# Altium schematic symbol library Microchip Interface.SchLib: 180 symbols (part 1 of 6)
Pins are listed as number, name and electrical type; pins without a type are passive.

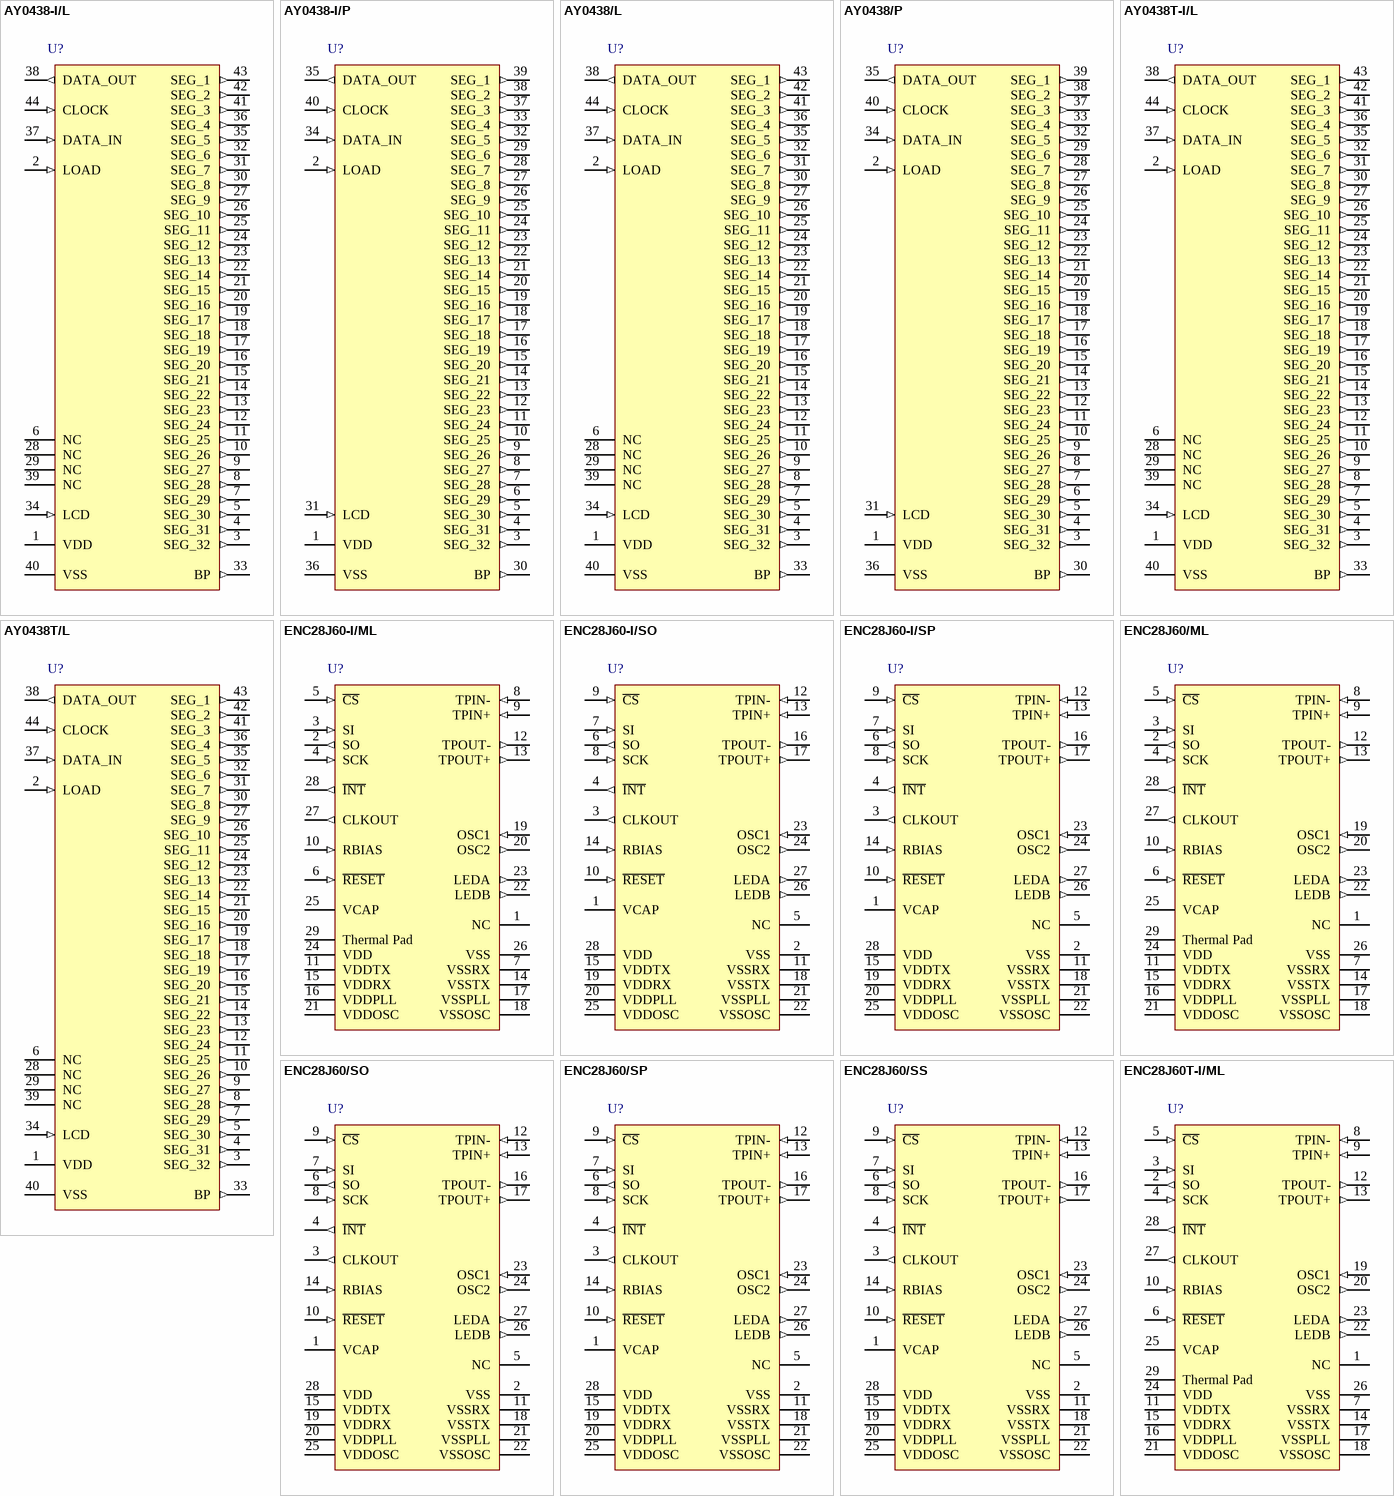
[diagram p0: symbols AY0438-I/L to ENC28J60T-I/ML]

## AY0438-I/L
designator U?
32-Segment CMOS LCD Driver, 44-Pin PLCC, Industrial Temperature; Published: 29-Jan-2009; DatasheetVersion: RevA, Apr-2003; PackageVersion: revBB, Aug-2009; PackageReference: PLCC-L44; Publisher: Altium Limited; PackageDescription: 44-Lead Plastic Leaded Chip Carrier (L) - Square [PLCC]; Supplier 1: Digi-Key; Supplier Part Number 1: AY0438-I/L-ND; Supplier 2: Farnell; Supplier Part Number 2: 1467690; Supplier 3: Farnell; Supplier Part Number 3: 1259011; Code_JEDEC: MO-047; Code_IPC: PLCC-44; ComponentLink1Description: Datasheet; ComponentLink1URL: http://ww1.microchip.com/downloads/en/DeviceDoc/80438a.pdf; ComponentLink2Description: Packaging Specification; ComponentLink2URL: http://www.microchip.com/stellent/groups/techpub_sg/documents/packagingspec/en012702.pdf; ComponentLink3Description: Microchip.com Home; ComponentLink3URL: http://www.microchip.com/
footprint PLCC-L44_N (Leaded Chip Carrier, 44-Leads, Body 16.6x16.6mm, Pitch 1.27mm, IPC Medium Density)
footprint PLCC-L44_L (Leaded Chip Carrier, 44-Leads, Body 16.6x16.6mm, Pitch 1.27mm, IPC High Density)
footprint PLCC-L44_M (Leaded Chip Carrier, 44-Leads, Body 16.6x16.6mm, Pitch 1.27mm, IPC Low Density)
pins: 1 VDD (power), 2 LOAD (in), 3 SEG_32 (out), 4 SEG_31 (out), 5 SEG_30 (out), 6 NC, 7 SEG_29 (out), 8 SEG_28 (out), 9 SEG_27 (out), 10 SEG_26 (out), 11 SEG_25 (out), 12 SEG_24 (out), 13 SEG_23 (out), 14 SEG_22 (out), 15 SEG_21 (out), 16 SEG_20 (out), 17 SEG_19 (out), 18 SEG_18 (out), 19 SEG_17 (out), 20 SEG_16 (out), 21 SEG_15 (out), 22 SEG_14 (out), 23 SEG_13 (out), 24 SEG_12 (out), 25 SEG_11 (out), 26 SEG_10 (out), 27 SEG_9 (out), 28 NC, 29 NC, 30 SEG_8 (out), 31 SEG_7 (out), 32 SEG_6 (out), 33 BP (out), 34 LCD (in), 35 SEG_5 (out), 36 SEG_4 (out), 37 DATA_IN (in), 38 DATA_OUT (out), 39 NC, 40 VSS (power), 41 SEG_3 (out), 42 SEG_2 (out), 43 SEG_1 (out), 44 CLOCK (in)

## AY0438-I/P
designator U?
32-Segment CMOS LCD Driver, 40-Pin PDIP, Industrial Temperature; Published: 29-Jan-2009; DatasheetVersion: RevA, Apr-2003; PackageVersion: revBB, Aug-2009; PackageReference: PDIP600-P40; Publisher: Altium Limited; PackageDescription: 40-Lead Plastic Dual In-Line (P) - 600 mil Body [PDIP]; Supplier 1: Digi-Key; Supplier Part Number 1: AY0438-I/P-ND; Supplier 2: Farnell; Supplier Part Number 2: 1227383; ComponentLink1Description: Datasheet; ComponentLink1URL: http://ww1.microchip.com/downloads/en/DeviceDoc/80438a.pdf; ComponentLink2Description: Packaging Specification; ComponentLink2URL: http://www.microchip.com/stellent/groups/techpub_sg/documents/packagingspec/en012702.pdf; ComponentLink3Description: Microchip.com Home; ComponentLink3URL: http://www.microchip.com/
footprint PDIP600-P40 (DIP, 40-Leads, Row Spacing 15.24mm, Pitch 2.54mm, Body 51.8x13.5mm)
pins: 1 VDD (power), 2 LOAD (in), 3 SEG_32 (out), 4 SEG_31 (out), 5 SEG_30 (out), 6 SEG_29 (out), 7 SEG_28 (out), 8 SEG_27 (out), 9 SEG_26 (out), 10 SEG_25 (out), 11 SEG_24 (out), 12 SEG_23 (out), 13 SEG_22 (out), 14 SEG_21 (out), 15 SEG_20 (out), 16 SEG_19 (out), 17 SEG_18 (out), 18 SEG_17 (out), 19 SEG_16 (out), 20 SEG_15 (out), 21 SEG_14 (out), 22 SEG_13 (out), 23 SEG_12 (out), 24 SEG_11 (out), 25 SEG_10 (out), 26 SEG_9 (out), 27 SEG_8 (out), 28 SEG_7 (out), 29 SEG_6 (out), 30 BP (out), 31 LCD (in), 32 SEG_5 (out), 33 SEG_4 (out), 34 DATA_IN (in), 35 DATA_OUT (out), 36 VSS (power), 37 SEG_3 (out), 38 SEG_2 (out), 39 SEG_1 (out), 40 CLOCK (in)

## AY0438/L
designator U?
32-Segment CMOS LCD Driver, 44-Pin PLCC; Published: 29-Jan-2009; DatasheetVersion: RevA, Apr-2003; PackageVersion: revBB, Aug-2009; PackageReference: PLCC-L44; Publisher: Altium Limited; PackageDescription: 44-Lead Plastic Leaded Chip Carrier (L) - Square [PLCC]; Supplier 1: Digi-Key; Supplier Part Number 1: AY0438/L-ND; Code_JEDEC: MO-047; Code_IPC: PLCC-44; ComponentLink1Description: Datasheet; ComponentLink1URL: http://ww1.microchip.com/downloads/en/DeviceDoc/80438a.pdf; ComponentLink2Description: Packaging Specification; ComponentLink2URL: http://www.microchip.com/stellent/groups/techpub_sg/documents/packagingspec/en012702.pdf; ComponentLink3Description: Microchip.com Home; ComponentLink3URL: http://www.microchip.com/
footprint PLCC-L44_N (Leaded Chip Carrier, 44-Leads, Body 16.6x16.6mm, Pitch 1.27mm, IPC Medium Density)
footprint PLCC-L44_L (Leaded Chip Carrier, 44-Leads, Body 16.6x16.6mm, Pitch 1.27mm, IPC High Density)
footprint PLCC-L44_M (Leaded Chip Carrier, 44-Leads, Body 16.6x16.6mm, Pitch 1.27mm, IPC Low Density)
pins: 1 VDD (power), 2 LOAD (in), 3 SEG_32 (out), 4 SEG_31 (out), 5 SEG_30 (out), 6 NC, 7 SEG_29 (out), 8 SEG_28 (out), 9 SEG_27 (out), 10 SEG_26 (out), 11 SEG_25 (out), 12 SEG_24 (out), 13 SEG_23 (out), 14 SEG_22 (out), 15 SEG_21 (out), 16 SEG_20 (out), 17 SEG_19 (out), 18 SEG_18 (out), 19 SEG_17 (out), 20 SEG_16 (out), 21 SEG_15 (out), 22 SEG_14 (out), 23 SEG_13 (out), 24 SEG_12 (out), 25 SEG_11 (out), 26 SEG_10 (out), 27 SEG_9 (out), 28 NC, 29 NC, 30 SEG_8 (out), 31 SEG_7 (out), 32 SEG_6 (out), 33 BP (out), 34 LCD (in), 35 SEG_5 (out), 36 SEG_4 (out), 37 DATA_IN (in), 38 DATA_OUT (out), 39 NC, 40 VSS (power), 41 SEG_3 (out), 42 SEG_2 (out), 43 SEG_1 (out), 44 CLOCK (in)

## AY0438/P
designator U?
32-Segment CMOS LCD Driver, 40-Pin PDIP; Published: 29-Jan-2009; DatasheetVersion: RevA, Apr-2003; PackageVersion: revBB, Aug-2009; PackageReference: PDIP600-P40; Publisher: Altium Limited; PackageDescription: 40-Lead Plastic Dual In-Line (P) - 600 mil Body [PDIP]; Supplier 1: Digi-Key; Supplier Part Number 1: AY0438/P-ND; Supplier 2: Farnell; Supplier Part Number 2: 1627184; ComponentLink1Description: Datasheet; ComponentLink1URL: http://ww1.microchip.com/downloads/en/DeviceDoc/80438a.pdf; ComponentLink2Description: Packaging Specification; ComponentLink2URL: http://www.microchip.com/stellent/groups/techpub_sg/documents/packagingspec/en012702.pdf; ComponentLink3Description: Microchip.com Home; ComponentLink3URL: http://www.microchip.com/
footprint PDIP600-P40 (DIP, 40-Leads, Row Spacing 15.24mm, Pitch 2.54mm, Body 51.8x13.5mm)
pins: 1 VDD (power), 2 LOAD (in), 3 SEG_32 (out), 4 SEG_31 (out), 5 SEG_30 (out), 6 SEG_29 (out), 7 SEG_28 (out), 8 SEG_27 (out), 9 SEG_26 (out), 10 SEG_25 (out), 11 SEG_24 (out), 12 SEG_23 (out), 13 SEG_22 (out), 14 SEG_21 (out), 15 SEG_20 (out), 16 SEG_19 (out), 17 SEG_18 (out), 18 SEG_17 (out), 19 SEG_16 (out), 20 SEG_15 (out), 21 SEG_14 (out), 22 SEG_13 (out), 23 SEG_12 (out), 24 SEG_11 (out), 25 SEG_10 (out), 26 SEG_9 (out), 27 SEG_8 (out), 28 SEG_7 (out), 29 SEG_6 (out), 30 BP (out), 31 LCD (in), 32 SEG_5 (out), 33 SEG_4 (out), 34 DATA_IN (in), 35 DATA_OUT (out), 36 VSS (power), 37 SEG_3 (out), 38 SEG_2 (out), 39 SEG_1 (out), 40 CLOCK (in)

## AY0438T-I/L
designator U?
32-Segment CMOS LCD Driver, 44-Pin PLCC, Industrial Temperature, Tape and Reel; Published: 29-Jan-2009; DatasheetVersion: RevA, Apr-2003; PackageVersion: revBB, Aug-2009; PackageReference: PLCC-L44; Publisher: Altium Limited; PackageDescription: 44-Lead Plastic Leaded Chip Carrier (L) - Square [PLCC]; Supplier 1: Digi-Key; Supplier Part Number 1: AY0438T-I/L-ND; Code_JEDEC: MO-047; Code_IPC: PLCC-44; ComponentLink1Description: Datasheet; ComponentLink1URL: http://ww1.microchip.com/downloads/en/DeviceDoc/80438a.pdf; ComponentLink2Description: Packaging Specification; ComponentLink2URL: http://www.microchip.com/stellent/groups/techpub_sg/documents/packagingspec/en012702.pdf; ComponentLink3Description: Microchip.com Home; ComponentLink3URL: http://www.microchip.com/
footprint PLCC-L44_N (Leaded Chip Carrier, 44-Leads, Body 16.6x16.6mm, Pitch 1.27mm, IPC Medium Density)
footprint PLCC-L44_L (Leaded Chip Carrier, 44-Leads, Body 16.6x16.6mm, Pitch 1.27mm, IPC High Density)
footprint PLCC-L44_M (Leaded Chip Carrier, 44-Leads, Body 16.6x16.6mm, Pitch 1.27mm, IPC Low Density)
pins: 1 VDD (power), 2 LOAD (in), 3 SEG_32 (out), 4 SEG_31 (out), 5 SEG_30 (out), 6 NC, 7 SEG_29 (out), 8 SEG_28 (out), 9 SEG_27 (out), 10 SEG_26 (out), 11 SEG_25 (out), 12 SEG_24 (out), 13 SEG_23 (out), 14 SEG_22 (out), 15 SEG_21 (out), 16 SEG_20 (out), 17 SEG_19 (out), 18 SEG_18 (out), 19 SEG_17 (out), 20 SEG_16 (out), 21 SEG_15 (out), 22 SEG_14 (out), 23 SEG_13 (out), 24 SEG_12 (out), 25 SEG_11 (out), 26 SEG_10 (out), 27 SEG_9 (out), 28 NC, 29 NC, 30 SEG_8 (out), 31 SEG_7 (out), 32 SEG_6 (out), 33 BP (out), 34 LCD (in), 35 SEG_5 (out), 36 SEG_4 (out), 37 DATA_IN (in), 38 DATA_OUT (out), 39 NC, 40 VSS (power), 41 SEG_3 (out), 42 SEG_2 (out), 43 SEG_1 (out), 44 CLOCK (in)

## AY0438T/L
designator U?
32-Segment CMOS LCD Driver, 44-Pin PLCC; Published: 29-Jan-2009; DatasheetVersion: RevA, Apr-2003; PackageVersion: revBB, Aug-2009; PackageReference: PLCC-L44; Publisher: Altium Limited; PackageDescription: 44-Lead Plastic Leaded Chip Carrier (L) - Square [PLCC]; Supplier 1: Digi-Key; Supplier Part Number 1: AY0438T/L-ND; Code_JEDEC: MO-047; Code_IPC: PLCC-44; ComponentLink1Description: Datasheet; ComponentLink1URL: http://ww1.microchip.com/downloads/en/DeviceDoc/80438a.pdf; ComponentLink2Description: Packaging Specification; ComponentLink2URL: http://www.microchip.com/stellent/groups/techpub_sg/documents/packagingspec/en012702.pdf; ComponentLink3Description: Microchip.com Home; ComponentLink3URL: http://www.microchip.com/
footprint PLCC-L44_N (Leaded Chip Carrier, 44-Leads, Body 16.6x16.6mm, Pitch 1.27mm, IPC Medium Density)
footprint PLCC-L44_L (Leaded Chip Carrier, 44-Leads, Body 16.6x16.6mm, Pitch 1.27mm, IPC High Density)
footprint PLCC-L44_M (Leaded Chip Carrier, 44-Leads, Body 16.6x16.6mm, Pitch 1.27mm, IPC Low Density)
pins: 1 VDD (power), 2 LOAD (in), 3 SEG_32 (out), 4 SEG_31 (out), 5 SEG_30 (out), 6 NC, 7 SEG_29 (out), 8 SEG_28 (out), 9 SEG_27 (out), 10 SEG_26 (out), 11 SEG_25 (out), 12 SEG_24 (out), 13 SEG_23 (out), 14 SEG_22 (out), 15 SEG_21 (out), 16 SEG_20 (out), 17 SEG_19 (out), 18 SEG_18 (out), 19 SEG_17 (out), 20 SEG_16 (out), 21 SEG_15 (out), 22 SEG_14 (out), 23 SEG_13 (out), 24 SEG_12 (out), 25 SEG_11 (out), 26 SEG_10 (out), 27 SEG_9 (out), 28 NC, 29 NC, 30 SEG_8 (out), 31 SEG_7 (out), 32 SEG_6 (out), 33 BP (out), 34 LCD (in), 35 SEG_5 (out), 36 SEG_4 (out), 37 DATA_IN (in), 38 DATA_OUT (out), 39 NC, 40 VSS (power), 41 SEG_3 (out), 42 SEG_2 (out), 43 SEG_1 (out), 44 CLOCK (in)

## ENC28J60-I/ML
designator U?
Stand-Alone Ethernet Controller with SPI Interface, 28-Pin QFN, Industrial Temperature; Published: 29-Jan-2009; LatestRevisionDate: 04-May-2009; LatestRevisionNote: Pinout fixed; DatasheetVersion: RevC, Jan-2008; PackageVersion: revBB, Aug-2009; PackageReference: QFN-ML28; Publisher: Altium Limited; PackageDescription: 28-Lead Plastic Quad Flat, No Lead Package (ML) - 6x6 mm Body [QFN] with 0.55 mm Contact Length; Supplier 1: Digi-Key; Supplier Part Number 1: ENC28J60-I/ML-ND; Supplier 2: Farnell; Supplier Part Number 2: 1564400; Code_JEDEC: MO-220; Code_IPC: QFN65P600X600-28V; ComponentLink1Description: Datasheet; ComponentLink1URL: http://ww1.microchip.com/downloads/en/DeviceDoc/39662c.pdf; ComponentLink2Description: Packaging Specification; ComponentLink2URL: http://www.microchip.com/stellent/groups/techpub_sg/documents/packagingspec/en012702.pdf; ComponentLink3Description: Microchip.com Home; ComponentLink3URL: http://www.microchip.com/
footprint QFN-ML28_N (QFN, 28-Leads, Body 6x6 mm, Pitch 0.65mm, IPC Medium Density)
footprint QFN-ML28_L (QFN, 28-Leads, Body 6x6 mm, Pitch 0.65mm, IPC High Density)
footprint QFN-ML28_M (QFN, 28-Leads, Body 6x6 mm, Pitch 0.65mm, IPC Low Density)
pins: 1 NC, 2 SO (out), 3 SI (in), 4 SCK (in), 5 ~{CS} (in), 6 ~{RESET} (in), 7 VSSRX (power), 8 TPIN- (in), 9 TPIN+ (in), 10 RBIAS (in), 11 VDDTX (power), 12 TPOUT- (out), 13 TPOUT+ (out), 14 VSSTX (power), 15 VDDRX (power), 16 VDDPLL (power), 17 VSSPLL (power), 18 VSSOSC (power), 19 OSC1 (in), 20 OSC2 (out), 21 VDDOSC (power), 22 LEDB (out), 23 LEDA (out), 24 VDD (power), 25 VCAP (power), 26 VSS (power), 27 CLKOUT (out), 28 ~{INT} (out), 29 Thermal Pad

## ENC28J60-I/SO
designator U?
Stand-Alone Ethernet Controller with SPI Interface, 28-Pin SOIC, Industrial Temperature; Published: 29-Jan-2009; DatasheetVersion: RevC, Jan-2008; PackageVersion: revBB, Aug-2009; PackageReference: SOIC-SO28; Publisher: Altium Limited; PackageDescription: 28-Lead Plastic Small Outline (SO) - Wide 7.50mm Body [SOIC]; Supplier 1: Digi-Key; Supplier Part Number 1: ENC28J60-I/SO-ND; Supplier 2: Farnell; Supplier Part Number 2: 1564401; Code_JEDEC: MS-013; ComponentLink1Description: Datasheet; ComponentLink1URL: http://ww1.microchip.com/downloads/en/DeviceDoc/39662c.pdf; ComponentLink2Description: Packaging Specification; ComponentLink2URL: http://www.microchip.com/stellent/groups/techpub_sg/documents/packagingspec/en012702.pdf; ComponentLink3Description: Microchip.com Home; ComponentLink3URL: http://www.microchip.com/
footprint SOIC-SO28_N (SOIC, 28-Leads, Body 17.9x7.5mm, Pitch 1.27mm, IPC Medium Density)
footprint SOIC-SO28_L (SOIC, 28-Leads, Body 17.9x7.5mm, Pitch 1.27mm, IPC High Density)
footprint SOIC-SO28_M (SOIC, 28-Leads, Body 17.9x7.5mm, Pitch 1.27mm, IPC Low Density)
pins: 1 VCAP (power), 2 VSS (power), 3 CLKOUT (out), 4 ~{INT} (out), 5 NC, 6 SO (out), 7 SI (in), 8 SCK (in), 9 ~{CS} (in), 10 ~{RESET} (in), 11 VSSRX (power), 12 TPIN- (in), 13 TPIN+ (in), 14 RBIAS (in), 15 VDDTX (power), 16 TPOUT- (out), 17 TPOUT+ (out), 18 VSSTX (power), 19 VDDRX (power), 20 VDDPLL (power), 21 VSSPLL (power), 22 VSSOSC (power), 23 OSC1 (in), 24 OSC2 (out), 25 VDDOSC (power), 26 LEDB (out), 27 LEDA (out), 28 VDD (power)

## ENC28J60-I/SP
designator U?
Stand-Alone Ethernet Controller with SPI Interface, 28-Pin SPDIP, Industrial Temperature; Published: 29-Jan-2009; DatasheetVersion: RevC, Jan-2008; PackageVersion: revBB, Aug-2009; PackageReference: SPDIP300-SP28; Publisher: Altium Limited; PackageDescription: 28-Lead Skinny Plastic Dual In-Line (SP) - 300 mil Body [SPDIP]; Supplier 1: Digi-Key; Supplier Part Number 1: ENC28J60-I/SP-ND; Supplier 2: Farnell; Supplier Part Number 2: 1564402; ComponentLink1Description: Datasheet; ComponentLink1URL: http://ww1.microchip.com/downloads/en/DeviceDoc/39662c.pdf; ComponentLink2Description: Packaging Specification; ComponentLink2URL: http://www.microchip.com/stellent/groups/techpub_sg/documents/packagingspec/en012702.pdf; ComponentLink3Description: Microchip.com Home; ComponentLink3URL: http://www.microchip.com/
footprint SPDIP300-SP28 (DIP, 28-Leads, Row Spacing 7.62mm, Pitch 2.54mm, Body 34.9x6.8mm)
pins: 1 VCAP (power), 2 VSS (power), 3 CLKOUT (out), 4 ~{INT} (out), 5 NC, 6 SO (out), 7 SI (in), 8 SCK (in), 9 ~{CS} (in), 10 ~{RESET} (in), 11 VSSRX (power), 12 TPIN- (in), 13 TPIN+ (in), 14 RBIAS (in), 15 VDDTX (power), 16 TPOUT- (out), 17 TPOUT+ (out), 18 VSSTX (power), 19 VDDRX (power), 20 VDDPLL (power), 21 VSSPLL (power), 22 VSSOSC (power), 23 OSC1 (in), 24 OSC2 (out), 25 VDDOSC (power), 26 LEDB (out), 27 LEDA (out), 28 VDD (power)

## ENC28J60/ML
designator U?
Stand-Alone Ethernet Controller with SPI Interface, 28-Pin QFN; Published: 29-Jan-2009; LatestRevisionDate: 04-May-2009; LatestRevisionNote: Pinout fixed; DatasheetVersion: RevC, Jan-2008; PackageVersion: revBB, Aug-2009; PackageReference: QFN-ML28; Publisher: Altium Limited; PackageDescription: 28-Lead Plastic Quad Flat, No Lead Package (ML) - 6x6 mm Body [QFN] with 0.55 mm Contact Length; Supplier 1: Digi-Key; Supplier Part Number 1: ENC28J60/ML-ND; Supplier 2: Farnell; Supplier Part Number 2: 1252897; Supplier 3: Farnell; Supplier Part Number 3: 1467830; Code_JEDEC: MO-220; Code_IPC: QFN65P600X600-28V; ComponentLink1Description: Datasheet; ComponentLink1URL: http://ww1.microchip.com/downloads/en/DeviceDoc/39662c.pdf; ComponentLink2Description: Packaging Specification; ComponentLink2URL: http://www.microchip.com/stellent/groups/techpub_sg/documents/packagingspec/en012702.pdf; ComponentLink3Description: Microchip.com Home; ComponentLink3URL: http://www.microchip.com/
footprint QFN-ML28_N (QFN, 28-Leads, Body 6x6 mm, Pitch 0.65mm, IPC Medium Density)
footprint QFN-ML28_L (QFN, 28-Leads, Body 6x6 mm, Pitch 0.65mm, IPC High Density)
footprint QFN-ML28_M (QFN, 28-Leads, Body 6x6 mm, Pitch 0.65mm, IPC Low Density)
pins: 1 NC, 2 SO (out), 3 SI (in), 4 SCK (in), 5 ~{CS} (in), 6 ~{RESET} (in), 7 VSSRX (power), 8 TPIN- (in), 9 TPIN+ (in), 10 RBIAS (in), 11 VDDTX (power), 12 TPOUT- (out), 13 TPOUT+ (out), 14 VSSTX (power), 15 VDDRX (power), 16 VDDPLL (power), 17 VSSPLL (power), 18 VSSOSC (power), 19 OSC1 (in), 20 OSC2 (out), 21 VDDOSC (power), 22 LEDB (out), 23 LEDA (out), 24 VDD (power), 25 VCAP (power), 26 VSS (power), 27 CLKOUT (out), 28 ~{INT} (out), 29 Thermal Pad

## ENC28J60/SO
designator U?
Stand-Alone Ethernet Controller with SPI Interface, 28-Pin SOIC; Published: 29-Jan-2009; DatasheetVersion: RevC, Jan-2008; PackageVersion: revBB, Aug-2009; PackageReference: SOIC-SO28; Publisher: Altium Limited; PackageDescription: 28-Lead Plastic Small Outline (SO) - Wide 7.50mm Body [SOIC]; Supplier 1: Digi-Key; Supplier Part Number 1: ENC28J60/SO-ND; Supplier 2: Farnell; Supplier Part Number 2: 1084618; Code_JEDEC: MS-013; ComponentLink1Description: Datasheet; ComponentLink1URL: http://ww1.microchip.com/downloads/en/DeviceDoc/39662c.pdf; ComponentLink2Description: Packaging Specification; ComponentLink2URL: http://www.microchip.com/stellent/groups/techpub_sg/documents/packagingspec/en012702.pdf; ComponentLink3Description: Microchip.com Home; ComponentLink3URL: http://www.microchip.com/
footprint SOIC-SO28_N (SOIC, 28-Leads, Body 17.9x7.5mm, Pitch 1.27mm, IPC Medium Density)
footprint SOIC-SO28_L (SOIC, 28-Leads, Body 17.9x7.5mm, Pitch 1.27mm, IPC High Density)
footprint SOIC-SO28_M (SOIC, 28-Leads, Body 17.9x7.5mm, Pitch 1.27mm, IPC Low Density)
pins: 1 VCAP (power), 2 VSS (power), 3 CLKOUT (out), 4 ~{INT} (out), 5 NC, 6 SO (out), 7 SI (in), 8 SCK (in), 9 ~{CS} (in), 10 ~{RESET} (in), 11 VSSRX (power), 12 TPIN- (in), 13 TPIN+ (in), 14 RBIAS (in), 15 VDDTX (power), 16 TPOUT- (out), 17 TPOUT+ (out), 18 VSSTX (power), 19 VDDRX (power), 20 VDDPLL (power), 21 VSSPLL (power), 22 VSSOSC (power), 23 OSC1 (in), 24 OSC2 (out), 25 VDDOSC (power), 26 LEDB (out), 27 LEDA (out), 28 VDD (power)

## ENC28J60/SP
designator U?
Stand-Alone Ethernet Controller with SPI Interface, 28-Pin SPDIP; Published: 29-Jan-2009; DatasheetVersion: RevC, Jan-2008; PackageVersion: revBB, Aug-2009; PackageReference: SPDIP300-SP28; Publisher: Altium Limited; PackageDescription: 28-Lead Skinny Plastic Dual In-Line (SP) - 300 mil Body [SPDIP]; Supplier 1: Digi-Key; Supplier Part Number 1: ENC28J60/SP-ND; Supplier 2: Farnell; Supplier Part Number 2: 1084619; ComponentLink1Description: Datasheet; ComponentLink1URL: http://ww1.microchip.com/downloads/en/DeviceDoc/39662c.pdf; ComponentLink2Description: Packaging Specification; ComponentLink2URL: http://www.microchip.com/stellent/groups/techpub_sg/documents/packagingspec/en012702.pdf; ComponentLink3Description: Microchip.com Home; ComponentLink3URL: http://www.microchip.com/
footprint SPDIP300-SP28 (DIP, 28-Leads, Row Spacing 7.62mm, Pitch 2.54mm, Body 34.9x6.8mm)
pins: 1 VCAP (power), 2 VSS (power), 3 CLKOUT (out), 4 ~{INT} (out), 5 NC, 6 SO (out), 7 SI (in), 8 SCK (in), 9 ~{CS} (in), 10 ~{RESET} (in), 11 VSSRX (power), 12 TPIN- (in), 13 TPIN+ (in), 14 RBIAS (in), 15 VDDTX (power), 16 TPOUT- (out), 17 TPOUT+ (out), 18 VSSTX (power), 19 VDDRX (power), 20 VDDPLL (power), 21 VSSPLL (power), 22 VSSOSC (power), 23 OSC1 (in), 24 OSC2 (out), 25 VDDOSC (power), 26 LEDB (out), 27 LEDA (out), 28 VDD (power)

## ENC28J60/SS
designator U?
Stand-Alone Ethernet Controller with SPI Interface, 28-Pin SSOP; Published: 29-Jan-2009; DatasheetVersion: RevC, Jan-2008; PackageVersion: revBB, Aug-2009; PackageReference: SSOP-SS28; Publisher: Altium Limited; PackageDescription: 28-Lead Plastic Shrink Small Outline (SS) - 5.3mm Body [SSOP]; Supplier 1: Digi-Key; Supplier Part Number 1: ENC28J60/SS-ND; Supplier 2: Farnell; Supplier Part Number 2: 1084620; Code_JEDEC: MS-150; Code_IPC: SOP65P780-28; ComponentLink1Description: Datasheet; ComponentLink1URL: http://ww1.microchip.com/downloads/en/DeviceDoc/39662c.pdf; ComponentLink2Description: Packaging Specification; ComponentLink2URL: http://www.microchip.com/stellent/groups/techpub_sg/documents/packagingspec/en012702.pdf; ComponentLink3Description: Microchip.com Home; ComponentLink3URL: http://www.microchip.com/
footprint SSOP-SS28_N (SOP, 28-Leads, Body 10.2x5.2mm, Pitch 0.65mm, IPC Medium Density)
footprint SSOP-SS28_L (SOP, 28-Leads, Body 10.2x5.2mm, Pitch 0.65mm, IPC High Density)
footprint SSOP-SS28_M (SOP, 28-Leads, Body 10.2x5.2mm, Pitch 0.65mm, IPC Low Density)
pins: 1 VCAP (power), 2 VSS (power), 3 CLKOUT (out), 4 ~{INT} (out), 5 NC, 6 SO (out), 7 SI (in), 8 SCK (in), 9 ~{CS} (in), 10 ~{RESET} (in), 11 VSSRX (power), 12 TPIN- (in), 13 TPIN+ (in), 14 RBIAS (in), 15 VDDTX (power), 16 TPOUT- (out), 17 TPOUT+ (out), 18 VSSTX (power), 19 VDDRX (power), 20 VDDPLL (power), 21 VSSPLL (power), 22 VSSOSC (power), 23 OSC1 (in), 24 OSC2 (out), 25 VDDOSC (power), 26 LEDB (out), 27 LEDA (out), 28 VDD (power)

## ENC28J60T-I/ML
designator U?
Stand-Alone Ethernet Controller with SPI Interface, 28-Pin QFN, Industrial Temperature, Tape and Reel; Published: 29-Jan-2009; LatestRevisionDate: 04-May-2009; LatestRevisionNote: Pinout fixed; DatasheetVersion: RevC, Jan-2008; PackageVersion: revBB, Aug-2009; PackageReference: QFN-ML28; Publisher: Altium Limited; PackageDescription: 28-Lead Plastic Quad Flat, No Lead Package (ML) - 6x6 mm Body [QFN] with 0.55 mm Contact Length; Supplier 1: Digi-Key; Supplier Part Number 1: ENC28J60T-I/ML-ND; Code_JEDEC: MO-220; Code_IPC: QFN65P600X600-28V; ComponentLink1Description: Datasheet; ComponentLink1URL: http://ww1.microchip.com/downloads/en/DeviceDoc/39662c.pdf; ComponentLink2Description: Packaging Specification; ComponentLink2URL: http://www.microchip.com/stellent/groups/techpub_sg/documents/packagingspec/en012702.pdf; ComponentLink3Description: Microchip.com Home; ComponentLink3URL: http://www.microchip.com/
footprint QFN-ML28_N (QFN, 28-Leads, Body 6x6 mm, Pitch 0.65mm, IPC Medium Density)
footprint QFN-ML28_L (QFN, 28-Leads, Body 6x6 mm, Pitch 0.65mm, IPC High Density)
footprint QFN-ML28_M (QFN, 28-Leads, Body 6x6 mm, Pitch 0.65mm, IPC Low Density)
pins: 1 NC, 2 SO (out), 3 SI (in), 4 SCK (in), 5 ~{CS} (in), 6 ~{RESET} (in), 7 VSSRX (power), 8 TPIN- (in), 9 TPIN+ (in), 10 RBIAS (in), 11 VDDTX (power), 12 TPOUT- (out), 13 TPOUT+ (out), 14 VSSTX (power), 15 VDDRX (power), 16 VDDPLL (power), 17 VSSPLL (power), 18 VSSOSC (power), 19 OSC1 (in), 20 OSC2 (out), 21 VDDOSC (power), 22 LEDB (out), 23 LEDA (out), 24 VDD (power), 25 VCAP (power), 26 VSS (power), 27 CLKOUT (out), 28 ~{INT} (out), 29 Thermal Pad

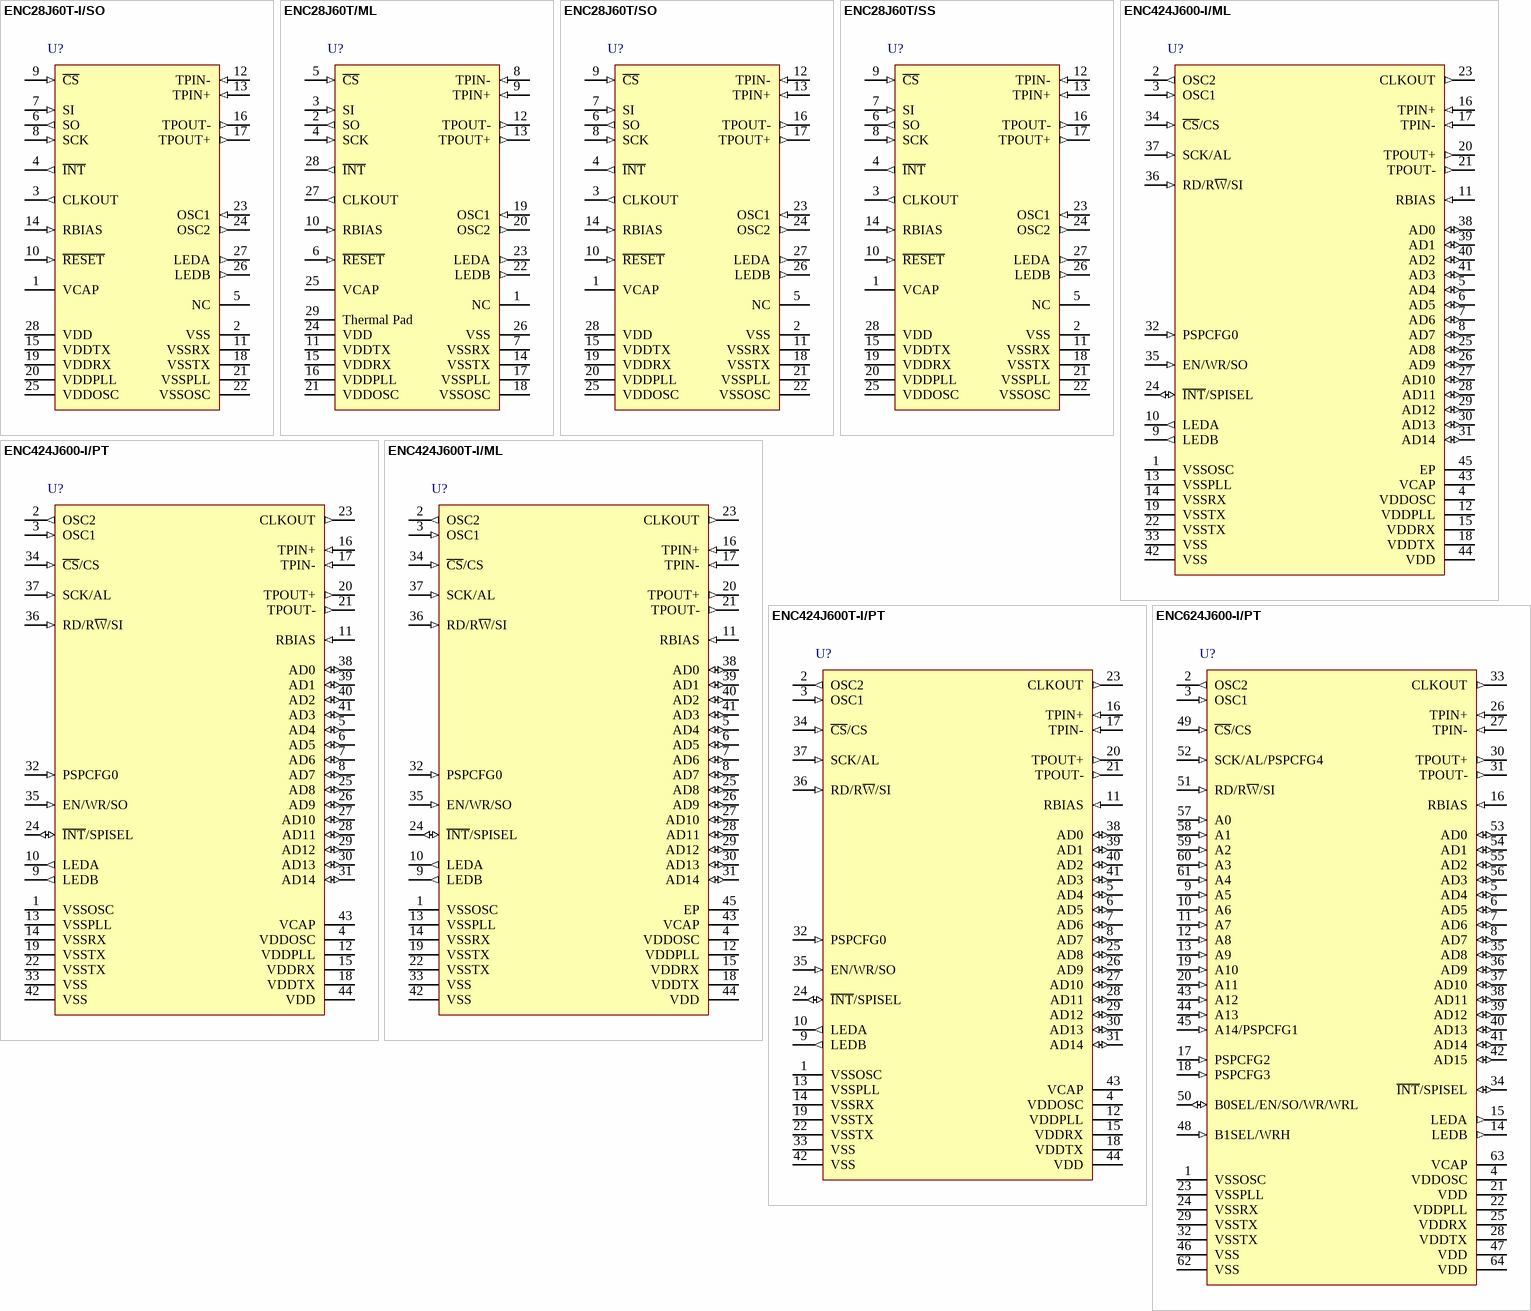
[diagram p1: symbols ENC28J60T-I/SO to ENC624J600-I/PT]

## ENC28J60T-I/SO
designator U?
Stand-Alone Ethernet Controller with SPI Interface, 28-Pin SOIC, Industrial Temperature, Tape and Reel; Published: 29-Jan-2009; DatasheetVersion: RevC, Jan-2008; PackageVersion: revBB, Aug-2009; PackageReference: SOIC-SO28; Publisher: Altium Limited; PackageDescription: 28-Lead Plastic Small Outline (SO) - Wide 7.50mm Body [SOIC]; Supplier 1: Digi-Key; Supplier Part Number 1: ENC28J60T-I/SOTR-ND; Code_JEDEC: MS-013; ComponentLink1Description: Datasheet; ComponentLink1URL: http://ww1.microchip.com/downloads/en/DeviceDoc/39662c.pdf; ComponentLink2Description: Packaging Specification; ComponentLink2URL: http://www.microchip.com/stellent/groups/techpub_sg/documents/packagingspec/en012702.pdf; ComponentLink3Description: Microchip.com Home; ComponentLink3URL: http://www.microchip.com/
footprint SOIC-SO28_N (SOIC, 28-Leads, Body 17.9x7.5mm, Pitch 1.27mm, IPC Medium Density)
footprint SOIC-SO28_L (SOIC, 28-Leads, Body 17.9x7.5mm, Pitch 1.27mm, IPC High Density)
footprint SOIC-SO28_M (SOIC, 28-Leads, Body 17.9x7.5mm, Pitch 1.27mm, IPC Low Density)
pins: 1 VCAP (power), 2 VSS (power), 3 CLKOUT (out), 4 ~{INT} (out), 5 NC, 6 SO (out), 7 SI (in), 8 SCK (in), 9 ~{CS} (in), 10 ~{RESET} (in), 11 VSSRX (power), 12 TPIN- (in), 13 TPIN+ (in), 14 RBIAS (in), 15 VDDTX (power), 16 TPOUT- (out), 17 TPOUT+ (out), 18 VSSTX (power), 19 VDDRX (power), 20 VDDPLL (power), 21 VSSPLL (power), 22 VSSOSC (power), 23 OSC1 (in), 24 OSC2 (out), 25 VDDOSC (power), 26 LEDB (out), 27 LEDA (out), 28 VDD (power)

## ENC28J60T/ML
designator U?
Stand-Alone Ethernet Controller with SPI Interface, 28-Pin QFN; ComponentAvailability: Unknown. Contact manufacturer to determine status.; Published: 29-Jan-2009; LatestRevisionDate: 04-May-2009; LatestRevisionNote: Pinout fixed; DatasheetVersion: RevC, Jan-2008; PackageVersion: revBB, Aug-2009; PackageReference: QFN-ML28; Publisher: Altium Limited; PackageDescription: 28-Lead Plastic Quad Flat, No Lead Package (ML) - 6x6 mm Body [QFN] with 0.55 mm Contact Length; Supplier 1: Digi-Key; Supplier Part Number 1: ENC28J60T/ML-ND; Code_JEDEC: MO-220; Code_IPC: QFN65P600X600-28V; ComponentLink1Description: Datasheet; ComponentLink1URL: http://ww1.microchip.com/downloads/en/DeviceDoc/39662c.pdf; ComponentLink2Description: Packaging Specification; ComponentLink2URL: http://www.microchip.com/stellent/groups/techpub_sg/documents/packagingspec/en012702.pdf; ComponentLink3Description: Microchip.com Home; ComponentLink3URL: http://www.microchip.com/
footprint QFN-ML28_N (QFN, 28-Leads, Body 6x6 mm, Pitch 0.65mm, IPC Medium Density)
footprint QFN-ML28_L (QFN, 28-Leads, Body 6x6 mm, Pitch 0.65mm, IPC High Density)
footprint QFN-ML28_M (QFN, 28-Leads, Body 6x6 mm, Pitch 0.65mm, IPC Low Density)
pins: 1 NC, 2 SO (out), 3 SI (in), 4 SCK (in), 5 ~{CS} (in), 6 ~{RESET} (in), 7 VSSRX (power), 8 TPIN- (in), 9 TPIN+ (in), 10 RBIAS (in), 11 VDDTX (power), 12 TPOUT- (out), 13 TPOUT+ (out), 14 VSSTX (power), 15 VDDRX (power), 16 VDDPLL (power), 17 VSSPLL (power), 18 VSSOSC (power), 19 OSC1 (in), 20 OSC2 (out), 21 VDDOSC (power), 22 LEDB (out), 23 LEDA (out), 24 VDD (power), 25 VCAP (power), 26 VSS (power), 27 CLKOUT (out), 28 ~{INT} (out), 29 Thermal Pad

## ENC28J60T/SO
designator U?
Stand-Alone Ethernet Controller with SPI Interface, 28-Pin SOIC; Published: 29-Jan-2009; DatasheetVersion: RevC, Jan-2008; PackageVersion: revBB, Aug-2009; PackageReference: SOIC-SO28; Publisher: Altium Limited; PackageDescription: 28-Lead Plastic Small Outline (SO) - Wide 7.50mm Body [SOIC]; Supplier 1: Digi-Key; Supplier Part Number 1: ENC28J60T/SO-ND; Code_JEDEC: MS-013; ComponentLink1Description: Datasheet; ComponentLink1URL: http://ww1.microchip.com/downloads/en/DeviceDoc/39662c.pdf; ComponentLink2Description: Packaging Specification; ComponentLink2URL: http://www.microchip.com/stellent/groups/techpub_sg/documents/packagingspec/en012702.pdf; ComponentLink3Description: Microchip.com Home; ComponentLink3URL: http://www.microchip.com/
footprint SOIC-SO28_N (SOIC, 28-Leads, Body 17.9x7.5mm, Pitch 1.27mm, IPC Medium Density)
footprint SOIC-SO28_L (SOIC, 28-Leads, Body 17.9x7.5mm, Pitch 1.27mm, IPC High Density)
footprint SOIC-SO28_M (SOIC, 28-Leads, Body 17.9x7.5mm, Pitch 1.27mm, IPC Low Density)
pins: 1 VCAP (power), 2 VSS (power), 3 CLKOUT (out), 4 ~{INT} (out), 5 NC, 6 SO (out), 7 SI (in), 8 SCK (in), 9 ~{CS} (in), 10 ~{RESET} (in), 11 VSSRX (power), 12 TPIN- (in), 13 TPIN+ (in), 14 RBIAS (in), 15 VDDTX (power), 16 TPOUT- (out), 17 TPOUT+ (out), 18 VSSTX (power), 19 VDDRX (power), 20 VDDPLL (power), 21 VSSPLL (power), 22 VSSOSC (power), 23 OSC1 (in), 24 OSC2 (out), 25 VDDOSC (power), 26 LEDB (out), 27 LEDA (out), 28 VDD (power)

## ENC28J60T/SS
designator U?
Stand-Alone Ethernet Controller with SPI Interface, 28-Pin SSOP, Tape and Reel; Published: 29-Jan-2009; DatasheetVersion: RevC, Jan-2008; PackageVersion: revBB, Aug-2009; PackageReference: SSOP-SS28; Publisher: Altium Limited; PackageDescription: 28-Lead Plastic Shrink Small Outline (SS) - 5.3mm Body [SSOP]; Supplier 1: Digi-Key; Supplier Part Number 1: ENC28J60T/SS-ND; Code_JEDEC: MS-150; Code_IPC: SOP65P780-28; ComponentLink1Description: Datasheet; ComponentLink1URL: http://ww1.microchip.com/downloads/en/DeviceDoc/39662c.pdf; ComponentLink2Description: Packaging Specification; ComponentLink2URL: http://www.microchip.com/stellent/groups/techpub_sg/documents/packagingspec/en012702.pdf; ComponentLink3Description: Microchip.com Home; ComponentLink3URL: http://www.microchip.com/
footprint SSOP-SS28_N (SOP, 28-Leads, Body 10.2x5.2mm, Pitch 0.65mm, IPC Medium Density)
footprint SSOP-SS28_L (SOP, 28-Leads, Body 10.2x5.2mm, Pitch 0.65mm, IPC High Density)
footprint SSOP-SS28_M (SOP, 28-Leads, Body 10.2x5.2mm, Pitch 0.65mm, IPC Low Density)
pins: 1 VCAP (power), 2 VSS (power), 3 CLKOUT (out), 4 ~{INT} (out), 5 NC, 6 SO (out), 7 SI (in), 8 SCK (in), 9 ~{CS} (in), 10 ~{RESET} (in), 11 VSSRX (power), 12 TPIN- (in), 13 TPIN+ (in), 14 RBIAS (in), 15 VDDTX (power), 16 TPOUT- (out), 17 TPOUT+ (out), 18 VSSTX (power), 19 VDDRX (power), 20 VDDPLL (power), 21 VSSPLL (power), 22 VSSOSC (power), 23 OSC1 (in), 24 OSC2 (out), 25 VDDOSC (power), 26 LEDB (out), 27 LEDA (out), 28 VDD (power)

## ENC424J600-I/ML
designator U?
Stand-Alone 10/100 Ethernet Controller with SPI or Parallel Interface, 44-Pin QFN, Industrial Temperature; Published: 2-Dec-2009; DatasheetVersion: revB, Jul-2009; PackageVersion: revBB, Aug-2009; PackageReference: QFN-ML44; Publisher: Altium Limited; PackageDescription: 44-Lead Plastic Quad Flat, No Lead Package (ML) - 8x8 mm Body [QFN]; Supplier 1: Digi-Key; Supplier Part Number 1: ENC424J600-I/ML-ND; Supplier 2: Farnell; Supplier Part Number 2: 1740225; Code_JEDEC: MO-220; Code_IPC: QFN65P800X800-44V2; ComponentLink1Description: Datasheet; ComponentLink1URL: http://ww1.microchip.com/downloads/en/DeviceDoc/39935b.pdf; ComponentLink2Description: Packaging Specification; ComponentLink2URL: http://www.microchip.com/stellent/groups/techpub_sg/documents/packagingspec/en012702.pdf; ComponentLink3Description: Microchip.com Home; ComponentLink3URL: http://www.microchip.com/
footprint QFN-ML44_N (QFN, 44-Leads, Body 8x8 mm, Pitch 0.65mm, IPC Medium Density)
footprint QFN-ML44_L (QFN, 44-Leads, Body 8x8 mm, Pitch 0.65mm, IPC High Density)
footprint QFN-ML44_M (QFN, 44-Leads, Body 8x8 mm, Pitch 0.65mm, IPC Low Density)
pins: 1 VSSOSC (power), 2 OSC2 (out), 3 OSC1 (in), 4 VDDOSC (power), 5 AD4 (io), 6 AD5 (io), 7 AD6 (io), 8 AD7 (io), 9 LEDB (out), 10 LEDA (out), 11 RBIAS (in), 12 VDDPLL (power), 13 VSSPLL (power), 14 VSSRX (power), 15 VDDRX (power), 16 TPIN+ (in), 17 TPIN- (in), 18 VDDTX (power), 19 VSSTX (power), 20 TPOUT+ (out), 21 TPOUT- (out), 22 VSSTX (power), 23 CLKOUT (out), 24 ~{INT}/SPISEL (io), 25 AD8 (io), 26 AD9 (io), 27 AD10 (io), 28 AD11 (io), 29 AD12 (io), 30 AD13 (io), 31 AD14 (io), 32 PSPCFG0 (in), 33 VSS (power), 34 ~{CS}/CS (in), 35 EN/WR/SO (in), 36 RD/R~{W}/SI (in), 37 SCK/AL (in), 38 AD0 (io), 39 AD1 (io), 40 AD2 (io), 41 AD3 (io), 42 VSS (power), 43 VCAP (power), 44 VDD (power), 45 EP

## ENC424J600-I/PT
designator U?
Stand-Alone 10/100 Ethernet Controller with SPI or Parallel Interface, 44-Pin TQFP, Industrial Temperature; Published: 2-Dec-2009; DatasheetVersion: revB, Jul-2009; PackageVersion: revBB, Aug-2009; PackageReference: TQFP-PT44; Publisher: Altium Limited; PackageDescription: 44-Lead Plastic Thin Quad Flatpack (PT) - 10x10x1mm Body, 2.00mm [TQFP]; Supplier 1: Digi-Key; Supplier Part Number 1: ENC424J600-I/PT-ND; Supplier 2: Farnell; Supplier Part Number 2: 1740226; Code_JEDEC: MS-026; ComponentLink1Description: Datasheet; ComponentLink1URL: http://ww1.microchip.com/downloads/en/DeviceDoc/39935b.pdf; ComponentLink2Description: Packaging Specification; ComponentLink2URL: http://www.microchip.com/stellent/groups/techpub_sg/documents/packagingspec/en012702.pdf; ComponentLink3Description: Microchip.com Home; ComponentLink3URL: http://www.microchip.com/
footprint TQFP-PT44_N (Thin QFP, 44-Leads, Body 10x10mm, Pitch 0.8mm, IPC Medium Density)
footprint TQFP-PT44_L (Thin QFP, 44-Leads, Body 10x10mm, Pitch 0.8mm, IPC High Density)
footprint TQFP-PT44_M (Thin QFP, 44-Leads, Body 10x10mm, Pitch 0.8mm, IPC Low Density)
pins: 1 VSSOSC (power), 2 OSC2 (out), 3 OSC1 (in), 4 VDDOSC (power), 5 AD4 (io), 6 AD5 (io), 7 AD6 (io), 8 AD7 (io), 9 LEDB (out), 10 LEDA (out), 11 RBIAS (in), 12 VDDPLL (power), 13 VSSPLL (power), 14 VSSRX (power), 15 VDDRX (power), 16 TPIN+ (in), 17 TPIN- (in), 18 VDDTX (power), 19 VSSTX (power), 20 TPOUT+ (out), 21 TPOUT- (out), 22 VSSTX (power), 23 CLKOUT (out), 24 ~{INT}/SPISEL (io), 25 AD8 (io), 26 AD9 (io), 27 AD10 (io), 28 AD11 (io), 29 AD12 (io), 30 AD13 (io), 31 AD14 (io), 32 PSPCFG0 (in), 33 VSS (power), 34 ~{CS}/CS (in), 35 EN/WR/SO (in), 36 RD/R~{W}/SI (in), 37 SCK/AL (in), 38 AD0 (io), 39 AD1 (io), 40 AD2 (io), 41 AD3 (io), 42 VSS (power), 43 VCAP (power), 44 VDD (power)

## ENC424J600T-I/ML
designator U?
Stand-Alone 10/100 Ethernet Controller with SPI or Parallel Interface, 44-Pin QFN, Industrial Temperature, Tape and Reel; Published: 2-Dec-2009; DatasheetVersion: revB, Jul-2009; PackageVersion: revBB, Aug-2009; PackageReference: QFN-ML44; Publisher: Altium Limited; PackageDescription: 44-Lead Plastic Quad Flat, No Lead Package (ML) - 8x8 mm Body [QFN]; Supplier 1: Digi-Key; Supplier Part Number 1: ENC424J600T-I/ML-ND; Code_JEDEC: MO-220; Code_IPC: QFN65P800X800-44V2; ComponentLink1Description: Datasheet; ComponentLink1URL: http://ww1.microchip.com/downloads/en/DeviceDoc/39935b.pdf; ComponentLink2Description: Packaging Specification; ComponentLink2URL: http://www.microchip.com/stellent/groups/techpub_sg/documents/packagingspec/en012702.pdf; ComponentLink3Description: Microchip.com Home; ComponentLink3URL: http://www.microchip.com/
footprint QFN-ML44_N (QFN, 44-Leads, Body 8x8 mm, Pitch 0.65mm, IPC Medium Density)
footprint QFN-ML44_L (QFN, 44-Leads, Body 8x8 mm, Pitch 0.65mm, IPC High Density)
footprint QFN-ML44_M (QFN, 44-Leads, Body 8x8 mm, Pitch 0.65mm, IPC Low Density)
pins: 1 VSSOSC (power), 2 OSC2 (out), 3 OSC1 (in), 4 VDDOSC (power), 5 AD4 (io), 6 AD5 (io), 7 AD6 (io), 8 AD7 (io), 9 LEDB (out), 10 LEDA (out), 11 RBIAS (in), 12 VDDPLL (power), 13 VSSPLL (power), 14 VSSRX (power), 15 VDDRX (power), 16 TPIN+ (in), 17 TPIN- (in), 18 VDDTX (power), 19 VSSTX (power), 20 TPOUT+ (out), 21 TPOUT- (out), 22 VSSTX (power), 23 CLKOUT (out), 24 ~{INT}/SPISEL (io), 25 AD8 (io), 26 AD9 (io), 27 AD10 (io), 28 AD11 (io), 29 AD12 (io), 30 AD13 (io), 31 AD14 (io), 32 PSPCFG0 (in), 33 VSS (power), 34 ~{CS}/CS (in), 35 EN/WR/SO (in), 36 RD/R~{W}/SI (in), 37 SCK/AL (in), 38 AD0 (io), 39 AD1 (io), 40 AD2 (io), 41 AD3 (io), 42 VSS (power), 43 VCAP (power), 44 VDD (power), 45 EP

## ENC424J600T-I/PT
designator U?
Stand-Alone 10/100 Ethernet Controller with SPI or Parallel Interface, 44-Pin TQFP, Industrial Temperature, Tape and Reel; Published: 2-Dec-2009; DatasheetVersion: revB, Jul-2009; PackageVersion: revBB, Aug-2009; PackageReference: TQFP-PT44; Publisher: Altium Limited; PackageDescription: 44-Lead Plastic Thin Quad Flatpack (PT) - 10x10x1mm Body, 2.00mm [TQFP]; Supplier 1: Digi-Key; Supplier Part Number 1: ENC424J600T-I/PT-ND; Code_JEDEC: MS-026; ComponentLink1Description: Datasheet; ComponentLink1URL: http://ww1.microchip.com/downloads/en/DeviceDoc/39935b.pdf; ComponentLink2Description: Packaging Specification; ComponentLink2URL: http://www.microchip.com/stellent/groups/techpub_sg/documents/packagingspec/en012702.pdf; ComponentLink3Description: Microchip.com Home; ComponentLink3URL: http://www.microchip.com/
footprint TQFP-PT44_N (Thin QFP, 44-Leads, Body 10x10mm, Pitch 0.8mm, IPC Medium Density)
footprint TQFP-PT44_L (Thin QFP, 44-Leads, Body 10x10mm, Pitch 0.8mm, IPC High Density)
footprint TQFP-PT44_M (Thin QFP, 44-Leads, Body 10x10mm, Pitch 0.8mm, IPC Low Density)
pins: 1 VSSOSC (power), 2 OSC2 (out), 3 OSC1 (in), 4 VDDOSC (power), 5 AD4 (io), 6 AD5 (io), 7 AD6 (io), 8 AD7 (io), 9 LEDB (out), 10 LEDA (out), 11 RBIAS (in), 12 VDDPLL (power), 13 VSSPLL (power), 14 VSSRX (power), 15 VDDRX (power), 16 TPIN+ (in), 17 TPIN- (in), 18 VDDTX (power), 19 VSSTX (power), 20 TPOUT+ (out), 21 TPOUT- (out), 22 VSSTX (power), 23 CLKOUT (out), 24 ~{INT}/SPISEL (io), 25 AD8 (io), 26 AD9 (io), 27 AD10 (io), 28 AD11 (io), 29 AD12 (io), 30 AD13 (io), 31 AD14 (io), 32 PSPCFG0 (in), 33 VSS (power), 34 ~{CS}/CS (in), 35 EN/WR/SO (in), 36 RD/R~{W}/SI (in), 37 SCK/AL (in), 38 AD0 (io), 39 AD1 (io), 40 AD2 (io), 41 AD3 (io), 42 VSS (power), 43 VCAP (power), 44 VDD (power)

## ENC624J600-I/PT
designator U?
Stand-Alone 10/100 Ethernet Controller with SPI or Parallel Interface, 64-Pin TQFP, Industrial Temperature; Published: 2-Dec-2009; DatasheetVersion: revB, Jul-2009; PackageVersion: revBB, Aug-2009; PackageReference: TQFP-PT64; Publisher: Altium Limited; PackageDescription: 64-Lead Thin Plastic Quad Flat Pack (PT) - 10x10x1mm Body, 2.00mm [TQFP]; Supplier 1: Digi-Key; Supplier Part Number 1: ENC624J600-I/PT-ND; Supplier 2: Farnell; Supplier Part Number 2: 1740227; Code_JEDEC: MS-026; ComponentLink1Description: Datasheet; ComponentLink1URL: http://ww1.microchip.com/downloads/en/DeviceDoc/39935b.pdf; ComponentLink2Description: Packaging Specification; ComponentLink2URL: http://www.microchip.com/stellent/groups/techpub_sg/documents/packagingspec/en012702.pdf; ComponentLink3Description: Microchip.com Home; ComponentLink3URL: http://www.microchip.com/
footprint TQFP-PT64_N (Thin QFP, 64-Leads, Body 10x10mm, Pitch 0.5mm, IPC Medium Density)
footprint TQFP-PT64_L (Thin QFP, 64-Leads, Body 10x10mm, Pitch 0.5mm, IPC High Density)
footprint TQFP-PT64_M (Thin QFP, 64-Leads, Body 10x10mm, Pitch 0.5mm, IPC Low Density)
pins: 1 VSSOSC (power), 2 OSC2 (out), 3 OSC1 (in), 4 VDDOSC (power), 5 AD4 (io), 6 AD5 (io), 7 AD6 (io), 8 AD7 (io), 9 A5 (in), 10 A6 (in), 11 A7 (in), 12 A8 (in), 13 A9 (in), 14 LEDB (out), 15 LEDA (out), 16 RBIAS (in), 17 PSPCFG2 (in), 18 PSPCFG3 (in), 19 A10 (in), 20 A11 (in), 21 VDD (power), 22 VDDPLL (power), 23 VSSPLL (power), 24 VSSRX (power), 25 VDDRX (power), 26 TPIN+ (in), 27 TPIN- (in), 28 VDDTX (power), 29 VSSTX (power), 30 TPOUT+ (out), 31 TPOUT- (out), 32 VSSTX (power), 33 CLKOUT (out), 34 ~{INT}/SPISEL (io), 35 AD8 (io), 36 AD9 (io), 37 AD10 (io), 38 AD11 (io), 39 AD12 (io), 40 AD13 (io), 41 AD14 (io), 42 AD15 (io), 43 A12 (in), 44 A13 (in), 45 A14/PSPCFG1 (in), 46 VSS (power), 47 VDD (power), 48 B1SEL/WRH (in), 49 ~{CS}/CS (in), 50 B0SEL/EN/SO/WR/WRL (io), 51 RD/R~{W}/SI (in), 52 SCK/AL/PSPCFG4 (in), 53 AD0 (io), 54 AD1 (io), 55 AD2 (io), 56 AD3 (io), 57 A0 (in), 58 A1 (in), 59 A2 (in), 60 A3 (in), 61 A4 (in), 62 VSS (power), 63 VCAP (power), 64 VDD (power)

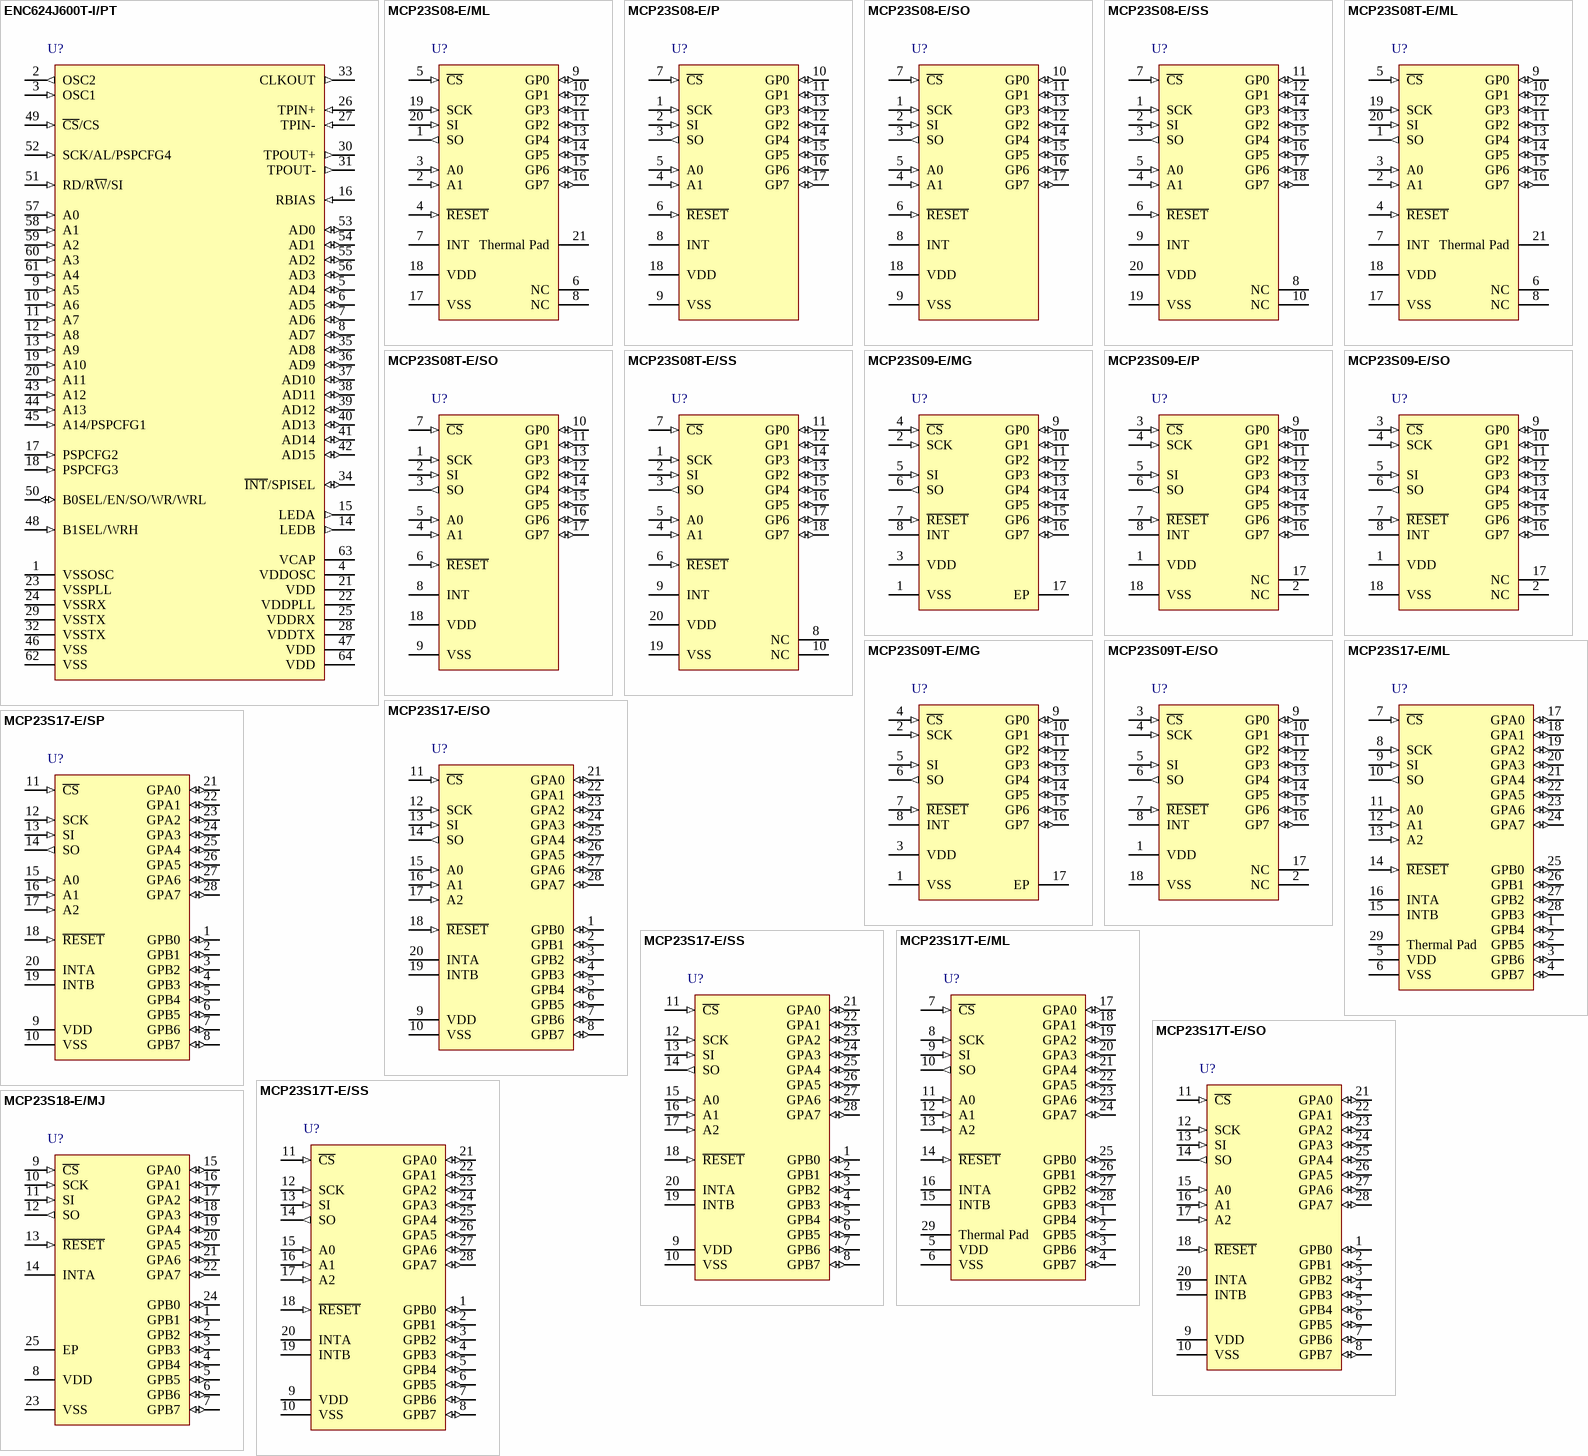
[diagram p2: symbols ENC624J600T-I/PT to MCP23S18-E/MJ]

## ENC624J600T-I/PT
designator U?
Stand-Alone 10/100 Ethernet Controller with SPI or Parallel Interface, 64-Pin TQFP, Industrial Temperature, Tape and Reel; Published: 2-Dec-2009; DatasheetVersion: revB, Jul-2009; PackageVersion: revBB, Aug-2009; PackageReference: TQFP-PT64; Publisher: Altium Limited; PackageDescription: 64-Lead Thin Plastic Quad Flat Pack (PT) - 10x10x1mm Body, 2.00mm [TQFP]; Supplier 1: Digi-Key; Supplier Part Number 1: ENC624J600T-I/PT-ND; Code_JEDEC: MS-026; ComponentLink1Description: Datasheet; ComponentLink1URL: http://ww1.microchip.com/downloads/en/DeviceDoc/39935b.pdf; ComponentLink2Description: Packaging Specification; ComponentLink2URL: http://www.microchip.com/stellent/groups/techpub_sg/documents/packagingspec/en012702.pdf; ComponentLink3Description: Microchip.com Home; ComponentLink3URL: http://www.microchip.com/
footprint TQFP-PT64_N (Thin QFP, 64-Leads, Body 10x10mm, Pitch 0.5mm, IPC Medium Density)
footprint TQFP-PT64_L (Thin QFP, 64-Leads, Body 10x10mm, Pitch 0.5mm, IPC High Density)
footprint TQFP-PT64_M (Thin QFP, 64-Leads, Body 10x10mm, Pitch 0.5mm, IPC Low Density)
pins: 1 VSSOSC (power), 2 OSC2 (out), 3 OSC1 (in), 4 VDDOSC (power), 5 AD4 (io), 6 AD5 (io), 7 AD6 (io), 8 AD7 (io), 9 A5 (in), 10 A6 (in), 11 A7 (in), 12 A8 (in), 13 A9 (in), 14 LEDB (out), 15 LEDA (out), 16 RBIAS (in), 17 PSPCFG2 (in), 18 PSPCFG3 (in), 19 A10 (in), 20 A11 (in), 21 VDD (power), 22 VDDPLL (power), 23 VSSPLL (power), 24 VSSRX (power), 25 VDDRX (power), 26 TPIN+ (in), 27 TPIN- (in), 28 VDDTX (power), 29 VSSTX (power), 30 TPOUT+ (out), 31 TPOUT- (out), 32 VSSTX (power), 33 CLKOUT (out), 34 ~{INT}/SPISEL (io), 35 AD8 (io), 36 AD9 (io), 37 AD10 (io), 38 AD11 (io), 39 AD12 (io), 40 AD13 (io), 41 AD14 (io), 42 AD15 (io), 43 A12 (in), 44 A13 (in), 45 A14/PSPCFG1 (in), 46 VSS (power), 47 VDD (power), 48 B1SEL/WRH (in), 49 ~{CS}/CS (in), 50 B0SEL/EN/SO/WR/WRL (io), 51 RD/R~{W}/SI (in), 52 SCK/AL/PSPCFG4 (in), 53 AD0 (io), 54 AD1 (io), 55 AD2 (io), 56 AD3 (io), 57 A0 (in), 58 A1 (in), 59 A2 (in), 60 A3 (in), 61 A4 (in), 62 VSS (power), 63 VCAP (power), 64 VDD (power)

## MCP23S08-E/ML
designator U?
8-Bit I/O Expander with Serial Interface, 20-Pin QFN, Extended Temperature; Published: 29-Jan-2009; DatasheetVersion: revE, Aug-2007; PackageVersion: revBB, Aug-2009; PackageReference: QFN-ML20; Publisher: Altium Limited; PackageDescription: 20-Lead Plastic Quad Flat, No Lead Package (ML) - 4x4x0.9 mm Body [QFN]; Supplier 1: Digi-Key; Supplier Part Number 1: MCP23S08-E/ML-ND; Supplier 2: Farnell; Supplier Part Number 2: 1788329; ComponentLink1Description: Datasheet; ComponentLink1URL: http://ww1.microchip.com/downloads/en/DeviceDoc/21919e.pdf; ComponentLink2Description: Packaging Specification; ComponentLink2URL: http://www.microchip.com/stellent/groups/techpub_sg/documents/packagingspec/en012702.pdf; ComponentLink3Description: Microchip.com Home; ComponentLink3URL: http://www.microchip.com/
footprint QFN-ML20_N (QFN, 20-Leads, Body 4x4mm, Pitch 0.5mm, IPC Medium Density)
footprint QFN-ML20_L (QFN, 20-Leads, Body 4x4mm, Pitch 0.5mm, IPC High Density)
footprint QFN-ML20_M (QFN, 20-Leads, Body 4x4mm, Pitch 0.5mm, IPC Low Density)
pins: 1 SO (out), 2 A1 (in), 3 A0 (in), 4 ~{RESET} (in), 5 ~{CS} (in), 6 NC, 7 INT (oc), 8 NC, 9 GP0 (io), 10 GP1 (io), 11 GP2 (io), 12 GP3 (io), 13 GP4 (io), 14 GP5 (io), 15 GP6 (io), 16 GP7 (io), 17 VSS (power), 18 VDD (power), 19 SCK (in), 20 SI (in), 21 Thermal Pad

## MCP23S08-E/P
designator U?
8-Bit I/O Expander with Serial Interface, 18-Pin PDIP, Extended Temperature; Published: 29-Jan-2009; DatasheetVersion: revE, Aug-2007; PackageVersion: revBB, Aug-2009; PackageReference: PDIP300-P18; Publisher: Altium Limited; PackageDescription: 18-Lead Plastic Dual In-Line (P) - 300 mil Body [PDIP]; Supplier 1: Digi-Key; Supplier Part Number 1: MCP23S08-E/P-ND; Supplier 2: Farnell; Supplier Part Number 2: 1332091; Code_JEDEC: MS-001; ComponentLink1Description: Datasheet; ComponentLink1URL: http://ww1.microchip.com/downloads/en/DeviceDoc/21919e.pdf; ComponentLink2Description: Packaging Specification; ComponentLink2URL: http://www.microchip.com/stellent/groups/techpub_sg/documents/packagingspec/en012702.pdf; ComponentLink3Description: Microchip.com Home; ComponentLink3URL: http://www.microchip.com/
footprint PDIP300-P18 (DIP, 18-Leads, Row Spacing 7.62mm, Pitch 2.54mm, Body 22.9x6.6mm)
pins: 1 SCK (in), 2 SI (in), 3 SO (out), 4 A1 (in), 5 A0 (in), 6 ~{RESET} (in), 7 ~{CS} (in), 8 INT (oc), 9 VSS (power), 10 GP0 (io), 11 GP1 (io), 12 GP2 (io), 13 GP3 (io), 14 GP4 (io), 15 GP5 (io), 16 GP6 (io), 17 GP7 (io), 18 VDD (power)

## MCP23S08-E/SO
designator U?
8-Bit I/O Expander with Serial Interface, 18-Pin SOIC, Extended Temperature; Published: 29-Jan-2009; DatasheetVersion: revE, Aug-2007; PackageVersion: revBB, Aug-2009; PackageReference: SOIC-SO18; Publisher: Altium Limited; PackageDescription: 18-Lead Plastic Small Outline (SO) - Wide 7.50mm Body [SOIC]; Supplier 1: Digi-Key; Supplier Part Number 1: MCP23S08-E/SO-ND; Supplier 2: Farnell; Supplier Part Number 2: 1332092; Code_JEDEC: MS-013; ComponentLink1Description: Datasheet; ComponentLink1URL: http://ww1.microchip.com/downloads/en/DeviceDoc/21919e.pdf; ComponentLink2Description: Packaging Specification; ComponentLink2URL: http://www.microchip.com/stellent/groups/techpub_sg/documents/packagingspec/en012702.pdf; ComponentLink3Description: Microchip.com Home; ComponentLink3URL: http://www.microchip.com/
footprint SOIC-SO18_N (SOIC, 18-Leads, Body 11.5x7.5mm, Pitch 1.27mm, IPC Medium Density)
footprint SOIC-SO18_L (SOIC, 18-Leads, Body 11.5x7.5mm, Pitch 1.27mm, IPC High Density)
footprint SOIC-SO18_M (SOIC, 18-Leads, Body 11.5x7.5mm, Pitch 1.27mm, IPC Low Density)
pins: 1 SCK (in), 2 SI (in), 3 SO (out), 4 A1 (in), 5 A0 (in), 6 ~{RESET} (in), 7 ~{CS} (in), 8 INT (oc), 9 VSS (power), 10 GP0 (io), 11 GP1 (io), 12 GP2 (io), 13 GP3 (io), 14 GP4 (io), 15 GP5 (io), 16 GP6 (io), 17 GP7 (io), 18 VDD (power)

## MCP23S08-E/SS
designator U?
8-Bit I/O Expander with Serial Interface, 20-Pin SSOP, Extended Temperature; Published: 29-Jan-2009; DatasheetVersion: revE, Aug-2007; PackageVersion: revBB, Aug-2009; PackageReference: SSOP-SS20; Publisher: Altium Limited; PackageDescription: 20-Lead Plastic Shrink Small Outline (SS) - 5.3mm Body [SSOP]; Supplier 1: Digi-Key; Supplier Part Number 1: MCP23S08-E/SS-ND; Supplier 2: Farnell; Supplier Part Number 2: 1292236; Code_JEDEC: MO-150; Code_IPC: SOP65P780-20; ComponentLink1Description: Datasheet; ComponentLink1URL: http://ww1.microchip.com/downloads/en/DeviceDoc/21919e.pdf; ComponentLink2Description: Packaging Specification; ComponentLink2URL: http://www.microchip.com/stellent/groups/techpub_sg/documents/packagingspec/en012702.pdf; ComponentLink3Description: Microchip.com Home; ComponentLink3URL: http://www.microchip.com/
footprint SSOP-SS20_N (SOP, 20-Leads, Body 7.2x5.2mm, Pitch 0.65mm, IPC Medium Density)
footprint SSOP-SS20_L (SOP, 20-Leads, Body 7.2x5.2mm, Pitch 0.65mm, IPC High Density)
footprint SSOP-SS20_M (SOP, 20-Leads, Body 7.2x5.2mm, Pitch 0.65mm, IPC Low Density)
pins: 1 SCK (in), 2 SI (in), 3 SO (out), 4 A1 (in), 5 A0 (in), 6 ~{RESET} (in), 7 ~{CS} (in), 8 NC, 9 INT (oc), 10 NC, 11 GP0 (io), 12 GP1 (io), 13 GP2 (io), 14 GP3 (io), 15 GP4 (io), 16 GP5 (io), 17 GP6 (io), 18 GP7 (io), 19 VSS (power), 20 VDD (power)

## MCP23S08T-E/ML
designator U?
8-Bit I/O Expander with Serial Interface, 20-Pin QFN, Extended Temperature, Tape and Reel; Published: 29-Jan-2009; DatasheetVersion: revE, Aug-2007; PackageVersion: revBB, Aug-2009; PackageReference: QFN-ML20; Publisher: Altium Limited; PackageDescription: 20-Lead Plastic Quad Flat, No Lead Package (ML) - 4x4x0.9 mm Body [QFN]; Supplier 1: Digi-Key; Supplier Part Number 1: MCP23S08T-E/ML-ND; ComponentLink1Description: Datasheet; ComponentLink1URL: http://ww1.microchip.com/downloads/en/DeviceDoc/21919e.pdf; ComponentLink2Description: Packaging Specification; ComponentLink2URL: http://www.microchip.com/stellent/groups/techpub_sg/documents/packagingspec/en012702.pdf; ComponentLink3Description: Microchip.com Home; ComponentLink3URL: http://www.microchip.com/
footprint QFN-ML20_N (QFN, 20-Leads, Body 4x4mm, Pitch 0.5mm, IPC Medium Density)
footprint QFN-ML20_L (QFN, 20-Leads, Body 4x4mm, Pitch 0.5mm, IPC High Density)
footprint QFN-ML20_M (QFN, 20-Leads, Body 4x4mm, Pitch 0.5mm, IPC Low Density)
pins: 1 SO (out), 2 A1 (in), 3 A0 (in), 4 ~{RESET} (in), 5 ~{CS} (in), 6 NC, 7 INT (oc), 8 NC, 9 GP0 (io), 10 GP1 (io), 11 GP2 (io), 12 GP3 (io), 13 GP4 (io), 14 GP5 (io), 15 GP6 (io), 16 GP7 (io), 17 VSS (power), 18 VDD (power), 19 SCK (in), 20 SI (in), 21 Thermal Pad

## MCP23S08T-E/SO
designator U?
8-Bit I/O Expander with Serial Interface, 18-Pin SOIC, Extended Temperature, Tape and Reel; Published: 29-Jan-2009; DatasheetVersion: revE, Aug-2007; PackageVersion: revBB, Aug-2009; PackageReference: SOIC-SO18; Publisher: Altium Limited; PackageDescription: 18-Lead Plastic Small Outline (SO) - Wide 7.50mm Body [SOIC]; Supplier 1: Digi-Key; Supplier Part Number 1: MCP23S08T-E/SO-ND; Code_JEDEC: MS-013; ComponentLink1Description: Datasheet; ComponentLink1URL: http://ww1.microchip.com/downloads/en/DeviceDoc/21919e.pdf; ComponentLink2Description: Packaging Specification; ComponentLink2URL: http://www.microchip.com/stellent/groups/techpub_sg/documents/packagingspec/en012702.pdf; ComponentLink3Description: Microchip.com Home; ComponentLink3URL: http://www.microchip.com/
footprint SOIC-SO18_N (SOIC, 18-Leads, Body 11.5x7.5mm, Pitch 1.27mm, IPC Medium Density)
footprint SOIC-SO18_L (SOIC, 18-Leads, Body 11.5x7.5mm, Pitch 1.27mm, IPC High Density)
footprint SOIC-SO18_M (SOIC, 18-Leads, Body 11.5x7.5mm, Pitch 1.27mm, IPC Low Density)
pins: 1 SCK (in), 2 SI (in), 3 SO (out), 4 A1 (in), 5 A0 (in), 6 ~{RESET} (in), 7 ~{CS} (in), 8 INT (oc), 9 VSS (power), 10 GP0 (io), 11 GP1 (io), 12 GP2 (io), 13 GP3 (io), 14 GP4 (io), 15 GP5 (io), 16 GP6 (io), 17 GP7 (io), 18 VDD (power)